# Altium footprint library alientek_sch_lib.PcbLib: 370 footprints (part 3 of 24)
Each footprint in its own frame and in the unit in brackets; x right, y up, seen from the top. Pads: shape width x height; smd on the part's side, far side on the other; paste and mask are expansions set on the pad; w line width, h text height; cw(c..) or ccw(c..) is an arc to the next point about the centre after c.
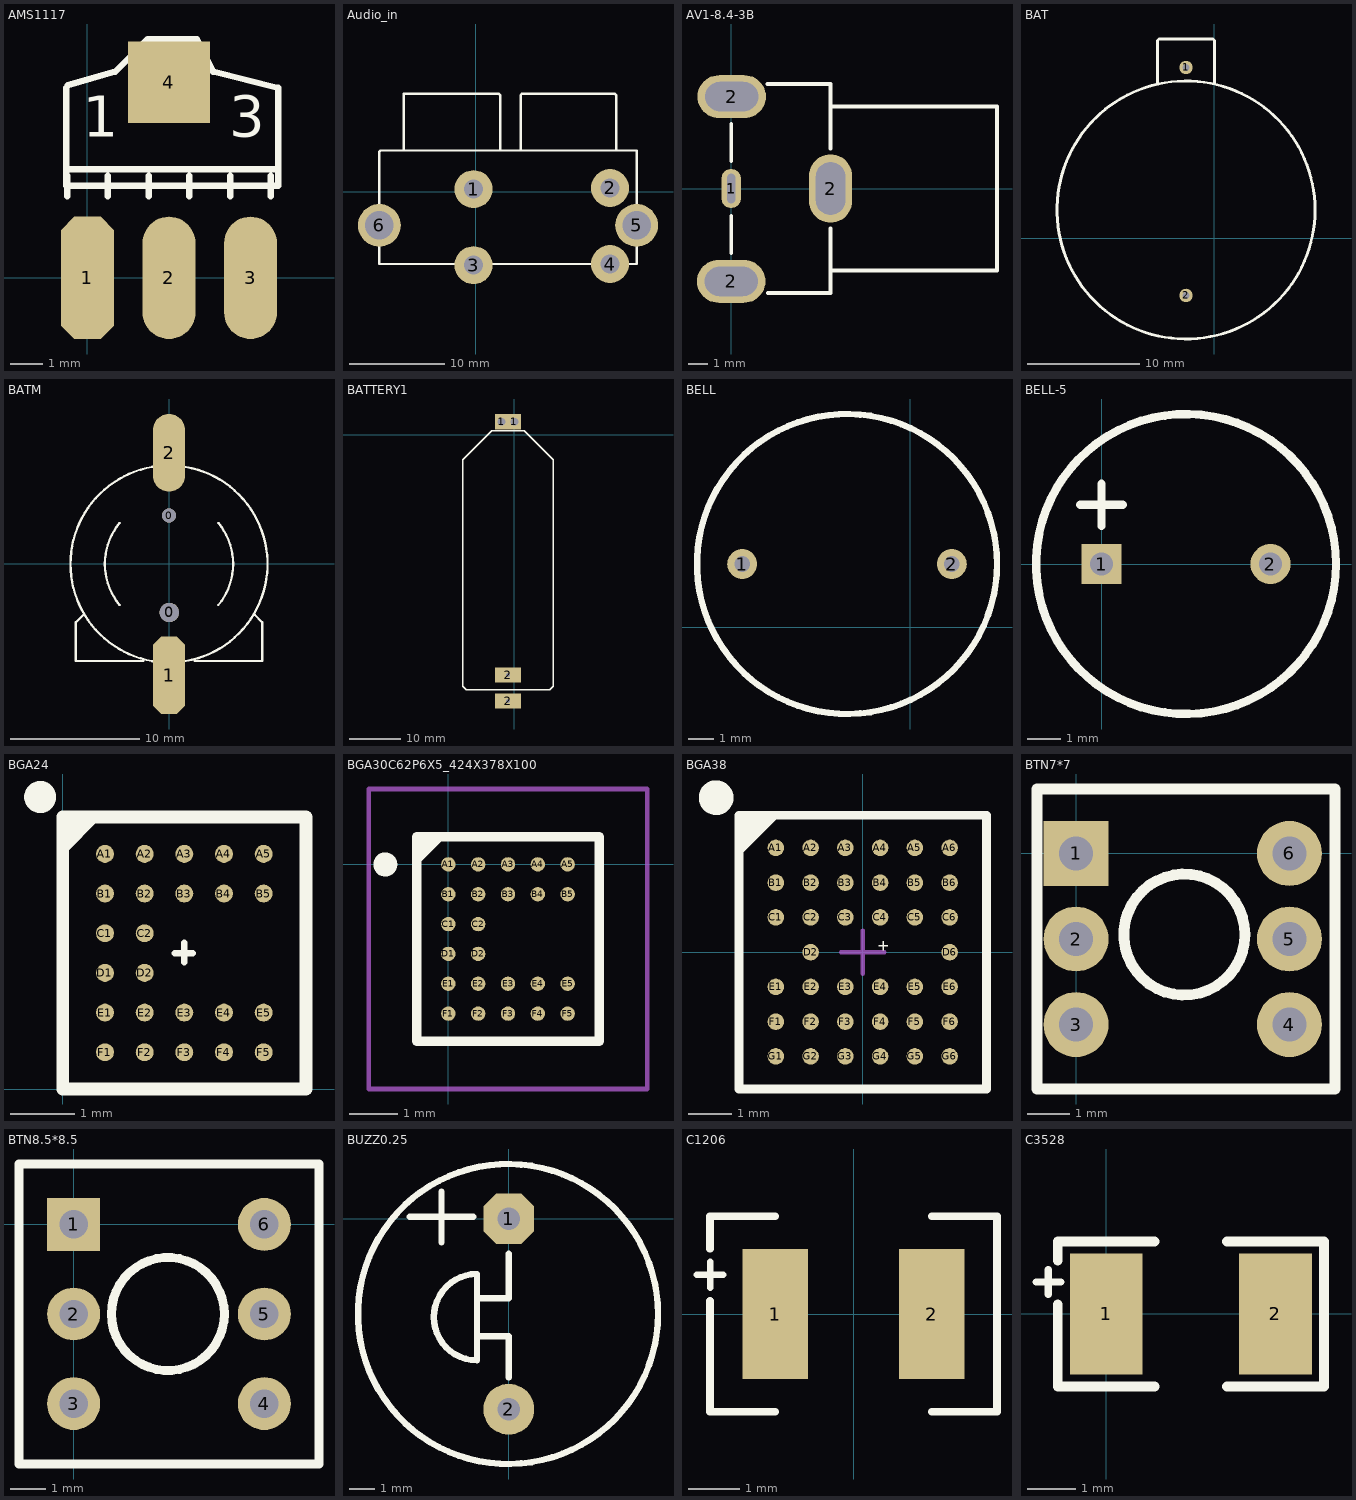
[diagram p2: the footprints below, top view; thin cyan lines are the x and y axes]

## AMS1117 [mil]
pads (4):
  oct 65x150 smd: 1(0.03,-0.06)
  oval 65x150 smd: 2(100.03,-0.06) 3(200.03,-0.06)
  rect 100x100 smd: 4(100.03,239.94)
Top Overlay:
  lines w7.87: -25.97,232.94 -25.97,132.94 ; -24.97,99.94 -24.97,124.94 ; -24.3,236.27 34.03,252.94 74.03,292.94 134.03,292.94 154.03,252.94 234.03,232.94 234.03,112.94 ; 25.03,99.94 25.03,124.94 ; 75.03,99.94 75.03,124.94 ; 125.03,99.94 125.03,124.94 ; 175.03,99.94 175.03,124.94 ; 225.03,99.94 225.03,124.94 ; -25.97,132.94 -25.97,112.94 234.03,112.94 ; -25.97,132.94 234.03,132.94 234.03,112.94
  text "1" at -5.97,172.94 h50
  text "3" at 174.03,172.94 h50

## Audio_in [mm]
height 20
pads (6):
  round 4 hole 2: 1(-0.254,0.254) 2(14.097,0.381) 3(-0.254,-7.747) 4(14.097,-7.62)
  round 4.5 hole 3: 5(16.891,-3.556) 6(-10.16,-3.556)
Top Overlay:
  lines w0.254: -7.62,4.318 -7.62,10.287 2.413,10.287 2.54,10.16 2.54,4.318 ; -6.985,4.318 10.795,4.318 ; -6.096,4.318 -10.033,4.318 -10.16,4.191 -10.16,-7.62 10.16,-7.62 ; 4.699,4.318 4.699,9.906 4.699,10.16 4.826,10.287 6.223,10.287 ; 5.842,10.287 7.747,10.287 14.605,10.287 14.732,10.16 14.732,4.318 ; 9.652,-7.62 16.891,-7.62 16.891,2.54 16.891,4.318 10.033,4.318

## AV1-8.4-3B [mm]
height 12.5
pads (4):
  oval 1x2 hole 0.4 slot 1.5 at 90 deg: 1(0,0)
  oval 3.5x2.2 hole 1.5 slot 2.7 at 0 deg: 2(0,-4.75) 2(0.025,4.699)
  oval 2.2x3.5 hole 1.5 slot 2.7 at 90 deg: 2(5.08,0)
Top Overlay:
  lines w0.2: 0,-3.302 0,-1.397 ; 0,1.397 0,3.302 ; 1.854,5.334 5.08,5.334 5.08,2.032 ; 1.88,-5.334 5.08,-5.334 5.08,-2.032 ; 5.189,-4.191 13.589,-4.191 13.589,4.191 5.189,4.191

## BAT [mm] "BATTERY"
pads (2):
  round 1.2 hole 0.635: 1(-2.54,15.24) 2(-2.54,-5.08)
Top Overlay:
  circle w0.254: c-2.54,2.54 r11.5
  lines w0.254: -5.08,13.843 -5.08,17.653 -4.953,17.78 -0.127,17.78 0,17.653 0,13.843

## BATM [mm] "BAT"
height 7
pads (4):
  round 1.1 hole 1.1 unplated: 0(0,3.748)
  round 1.5 hole 1.5 unplated: 0(0.025,-3.752)
  oct 2.5x6 smd: 1(0,-8.602)
  oval 2.5x6 smd: 2(0,8.598)
Top Overlay:
  lines w0.178: -6.6,-3.902 -7.2,-4.502 -7.2,-7.502 -2,-7.502 ; -3.815,-3.171 cw(c0,-0.002) -3.812,3.171 ; -0.833,-7.576 cw(c0,-0.002) -7.62,-0.002 cw(c0,-0.002) -0.833,7.573 ; 0.833,-7.576 ccw(c0,-0.002) 0.833,7.573 ; 2,-7.502 7.2,-7.502 7.2,-4.502 6.625,-3.927 ; 3.81,-3.177 ccw(c0,-0.002) 3.812,3.171

## BATTERY1 [mm] "18mm*49.5mm"
height 20
pads (4):
  rect 2.54x3 hole 1.5: 1(-2.54,2.54) 1(0,2.54)
  rect 5.08x3 hole 0.7: 2(-1.27,-52.07) 2(-1.27,-46.99)
Top Overlay:
  lines w0.254: -10.16,-46.736 -10.16,-44.577 -10.16,-6.604 -10.16,-4.953 -4.445,0.762 1.905,0.762 7.62,-4.953 7.62,-44.323 7.62,-49.149 6.858,-49.911 -9.398,-49.911 -10.16,-49.149 -10.16,-46.609

## BELL [mm] "BELL"
height 10
pads (2):
  round 1.2 hole 0.635: 1(-6.731,2.54) 2(1.651,2.54)
Top Overlay:
  circle w0.254: c-2.54,2.54 r6

## BELL-5 [mm] "PIN:5MM,SIZE:10MM"
height 3
pads (2):
  rect 1.2x1.2 hole 0.7: 1(0,0)
  round 1.2 hole 0.7: 2(5.08,0)
Top Overlay:
  circle w0.254: c2.54,0 r4.51
  lines w0.254: -0.635,1.778 0.635,1.778 ; 0,1.143 0,2.413

## BGA24 [mm] "BGA, 24-Leads, Body 4.2x3.8mm,  Pitch 0.62mm"
height 1
pads (24):
  round 0.28 smd: A1(0.66,3.675) A2(1.28,3.675) A3(1.9,3.675) A4(2.52,3.675) A5(3.14,3.675) B1(0.66,3.055) B2(1.28,3.055) B3(1.9,3.055) B4(2.52,3.055) B5(3.14,3.055) C1(0.66,2.435) C2(1.28,2.435) D1(0.66,1.815) D2(1.28,1.815) E1(0.66,1.195) E2(1.28,1.195) E3(1.9,1.195) E4(2.52,1.195) E5(3.14,1.195) F1(0.66,0.575) F2(1.28,0.575) F3(1.9,0.575) F4(2.52,0.575) F5(3.14,0.575)
Top Overlay:
  circle w0.25: c-0.354,4.564 r0.125
  region: 0.472,4.25 0,3.778 0,4.25
  lines w0.102: 1.753,2.125 2.032,2.125 ; 1.9,1.981 1.9,2.286
  lines w0.2: 0,3.778 0.472,4.25 ; 0,0 0,4.25 3.8,4.25 3.8,0 0,0

## BGA30C62P6X5_424X378X100 [mm] "BGA, 30-Leads, Body 4.2x3.8mm,  Pitch 0.62mm"
height 1
pads (24):
  round 0.3 smd: A1(0,0) A2(0.62,0) A3(1.24,0) A4(1.86,0) A5(2.48,0) B1(0,-0.62) B2(0.62,-0.62) B3(1.24,-0.62) B4(1.86,-0.62) B5(2.48,-0.62) C1(0,-1.24) C2(0.62,-1.24) D1(0,-1.86) D2(0.62,-1.86) E1(0,-2.48) E2(0.62,-2.48) E3(1.24,-2.48) E4(1.86,-2.48) E5(2.48,-2.48) F1(0,-3.1) F2(0.62,-3.1) F3(1.24,-3.1) F4(1.86,-3.1) F5(2.48,-3.1)
Top Overlay:
  circle w0.25: c-1.31,0 r0.125
  region: -0.188,0.575 -0.66,0.103 -0.66,0.575
  lines w0.2: -0.66,0.103 -0.188,0.575 ; -0.66,-3.675 -0.66,0.575 3.14,0.575 3.14,-3.675 -0.66,-3.675
Mechanical 13:
  lines w0.1: -0.66,-3.675 -0.66,0.575 3.14,0.575 3.14,-3.675 -0.66,-3.675
Mechanical 15:
  lines w0.1: -1.653,-4.667 -1.653,1.568 4.132,1.568 4.132,-4.667 -1.653,-4.667

## BGA38 [mm] "BGA, 42-Leads, Body 6.3x5.7mm,  Pitch 0.80mm"
height 0.4
pads (38):
  round 0.38 smd: A1(-2,2.4) A2(-1.2,2.4) A3(-0.4,2.4) A4(0.4,2.4) A5(1.2,2.4) A6(2,2.4) B1(-2,1.6) B2(-1.2,1.6) B3(-0.4,1.6) B4(0.4,1.6) B5(1.2,1.6) B6(2,1.6) C1(-2,0.8) C2(-1.2,0.8) C3(-0.4,0.8) C4(0.4,0.8) C5(1.2,0.8) C6(2,0.8) D2(-1.2,0) D6(2,0) E1(-2,-0.8) E2(-1.2,-0.8) E3(-0.4,-0.8) E4(0.4,-0.8) E5(1.2,-0.8) E6(2,-0.8) F1(-2,-1.6) F2(-1.2,-1.6) F3(-0.4,-1.6) F4(0.4,-1.6) F5(1.2,-1.6) F6(2,-1.6) G1(-2,-2.4) G2(-1.2,-2.4) G3(-0.4,-2.4) G4(0.4,-2.4) G5(1.2,-2.4) G6(2,-2.4)
Top Overlay:
  circle w0.4: c-3.375,3.556 r0.2
  region: -2.034,3.15 -2.85,2.334 -2.85,3.15
  lines w0.03: 0.37,0.145 0.58,0.145 ; 0.47,0.04 0.47,0.25
  lines w0.2: -2.85,2.334 -2.034,3.15 ; -2.85,-3.15 -2.85,3.15 2.85,3.15 2.85,-3.15 -2.85,-3.15
Mechanical 13:
  lines w0.1: -2.85,-3.15 -2.85,3.15 2.85,3.15 2.85,-3.15 -2.85,-3.15
Mechanical 15:
  lines w0.1: -0.5,0 0.5,0 ; 0,-0.5 0,0.5

## BTN7*7 [mil] "7mm*7mm"
height 393.7
pads (6):
  rect 60x60 hole 31.5: 1(0,-0.06)
  round 60 hole 31.5: 2(0,-79.06) 3(0,-158.06) 4(197,-158.06) 5(197,-79.06) 6(197,-0.06)
Top Overlay:
  circle w10: c100,-75 r55.9
  lines w10: -36,-217.56 239,-217.56 239,59.44 -36,59.44 -36,-217.56

## BTN8.5*8.5 [mm] "8.5MM*8.5MM"
height 20
pads (6):
  rect 1.5x1.5 hole 0.8: 1(0,0)
  round 1.5 hole 0.8: 2(0,-2.54) 3(0,-5.08) 4(5.4,-5.08) 5(5.4,-2.54) 6(5.4,0)
Top Overlay:
  circle w0.254: c2.667,-2.54 r1.6
  lines w0.254: -1.55,-6.79 6.95,-6.79 6.95,1.71 -1.55,1.71 -1.55,-6.79

## BUZZ0.25 [mil]
pads (2):
  oct 80x80 hole 35.43: 1(0,0)
  round 80 hole 35.43: 2(0,-300)
Top Overlay:
  circle w10: c-1.22,-150 r236.22
  lines w10: -156,3 -56,3 ; -106,-37 -106,43 ; -50,-185 0,-185 0,-250 ; -50,-125 0,-125 0,-55 ; -50,-223.01 cw(c-50,-155) -50,-86.99 -50,-223.01

## C1206 [mil] "C1206"
height 1
pads (2):
  rect 50x100 smd: 1(-60,0) 2(60,0)
Top Overlay:
  lines w5: -120,30 -100,30 ; -110,20 -110,40
  lines w6: -110,10 -110,-75 -60,-75 ; -110,50 -110,75 ; -100,75 -110,75 ; -60,75 -110,75 ; 60,-75 110,-75 110,75 60,75

## C3528 [mm] "1210 3.5MM*2.8MM"
height 2
pads (2):
  rect 1.5x2.5 smd: 1(0,0) 2(3.5,0)
Top Overlay:
  lines w0.152: -1.448,0.662 -0.94,0.662 ; -1.194,0.408 -1.194,0.916
  lines w0.203: -1,0.2 -1,-1.5 1.005,-1.5 ; -1,1.1 -1,1.5 1,1.5 ; 2.5,-1.5 4.5,-1.5 4.5,1.5 2.5,1.5